# Altium footprint library TE_828801-1.PcbLib: 1 footprints
Each footprint in its own frame and in the unit in brackets; x right, y up, seen from the top. Pads: shape width x height; smd on the part's side, far side on the other; paste and mask are expansions set on the pad; w line width, h text height; cw(c..) or ccw(c..) is an arc to the next point about the centre after c.
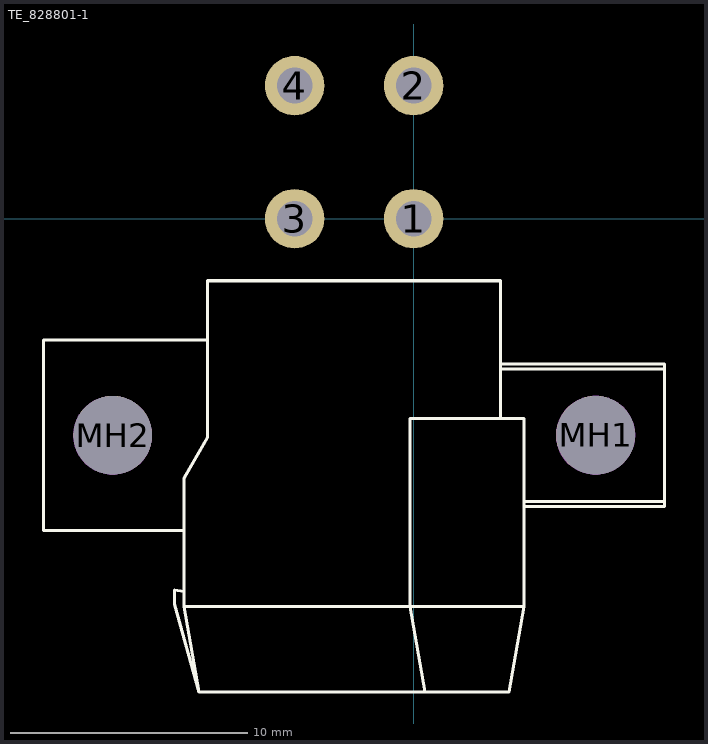
[diagram p0: the footprint, top view; thin cyan lines are the x and y axes]

## TE_828801-1 [mm] "4-pos. male conn. - left"
height 19
pads (6):
  round 2.5 hole 1.5: 1(0,0) 2(0,5.6) 3(-5,0) 4(-5,5.6)
  round 3.3 hole 3.3: MH1(7.65,-9.1) MH2(-12.65,-9.1)
Top Overlay:
  lines w0.127: -9.657,-15.678 -10.057,-15.608 -10.057,-16.208 -9.022,-19.908 ; -9.657,-13.108 -15.557,-13.108 -15.557,-5.108 -8.657,-5.108 ; 0.478,-19.908 -0.157,-16.308 -0.157,-8.408 4.643,-8.408 4.643,-16.308 ; 3.643,-8.408 3.643,-2.608 -8.657,-2.608 -8.657,-9.176 -9.657,-10.908 -9.657,-16.308 ; 3.643,-6.326 10.543,-6.326 ; 3.643,-6.108 10.543,-6.108 10.543,-12.108 4.643,-12.108 ; 4.643,-11.889 10.543,-11.889 ; -9.657,-16.308 4.643,-16.308 ; -9.657,-16.308 -9.022,-19.908 ; -9.022,-19.908 4.008,-19.908 4.643,-16.308
Mechanical 12:
  circle w0.127: c-12.657,-9.108 r1.6
  circle w0.127: c7.643,-9.108 r1.6
  circle w0.127: c7.657,-9.098 r1.6
3D body "c-828801-1-e-3d.stp": height 19, standoff -3.5, extent -15.59,-19.804 10.51,6.096